# Altium footprint library GeneralCases.PcbLib: 45 footprints (part 3 of 3)
Each footprint in its own frame and in the unit in brackets; x right, y up, seen from the top. Pads: shape width x height; smd on the part's side, far side on the other; paste and mask are expansions set on the pad; w line width, h text height; cw(c..) or ccw(c..) is an arc to the next point about the centre after c.
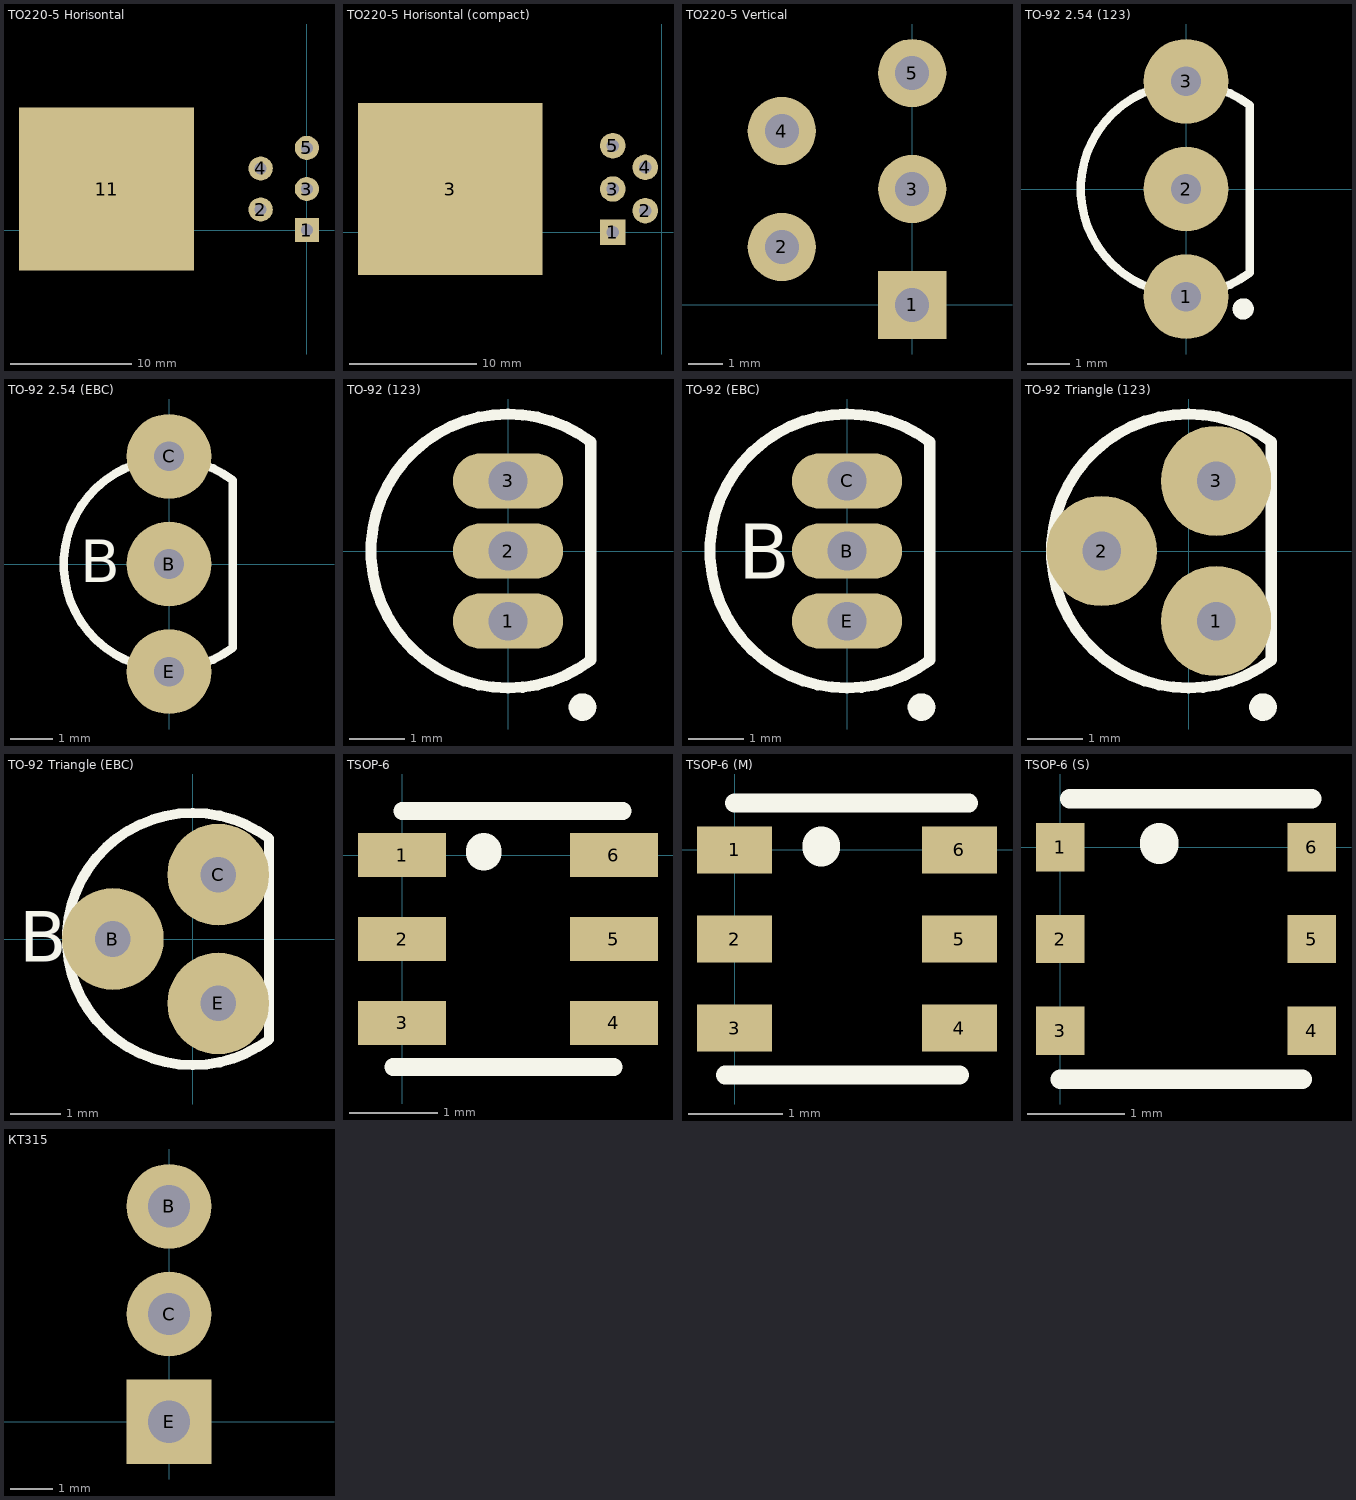
[diagram p2: the footprints below, top view; thin cyan lines are the x and y axes]

## TO220-5 Horisontal [mm]
height 5
pads (6):
  rect 2x2 hole 1: 1(0,0)
  round 2 hole 1: 2(-3.825,1.7) 3(0,3.4) 4(-3.825,5.1) 5(0,6.8)
  rect 14.5x13.5 smd: 11(-16.575,3.4)
3D body "TO220-5 horisontal.step": height 5, standoff -5.9, extent -21.9,-1.8 0.325,8.6

## TO220-5 Horisontal (compact) [mm]
height 5
pads (6):
  rect 2x2 hole 1: 1(-3.825,0)
  round 2 hole 1: 2(-1.275,1.7) 3(-3.825,3.4) 4(-1.275,5.1) 5(-3.825,6.8)
  rect 14.5x13.5 smd: 3(-16.575,3.4)

## TO220-5 Vertical [mm]
height 22
pads (5):
  rect 2x2 hole 1: 1(0,0)
  round 2 hole 1: 2(-3.825,1.7) 3(0,3.4) 4(-3.825,5.1) 5(0,6.8)
3D body "TO220-5 vertical.STEP": height 22.35, standoff -1.64, extent -8.24,-1.68 0,8.48

## TO-92 2.54 (123) [mm] "TO, Flat Index; 3 In-Line, Axial Leads; Body Dia. 4.5mm; Leads 0.51 x 0.48 mm (max)"
height 6.86
pads (3):
  round 2 hole 0.7: 1(0,-2.54) 2(0,0) 3(0,2.54)
Top Overlay:
  circle w0.25: c1.35,-2.83 r0.125
  lines w0.2: 1.5,-1.98 cw(c0,0) 1.5,1.98 1.5,-1.98
3D body "TO-92 (2.54mm).step": height 5.7, standoff -2, extent -2.371,-2.79 1.6,2.79

## TO-92 2.54 (EBC) [mm] "TO, Flat Index; 3 In-Line, Axial Leads; Body Dia. 4.5mm; Leads 0.51 x 0.48 mm (max)"
height 6.86
pads (3):
  round 2 hole 0.7: B(0,0) C(0,2.54) E(0,-2.54)
Top Overlay:
  lines w0.2: 1.5,-1.98 cw(c0,0) 1.5,1.98 1.5,-1.98
  text "B" at -2.1,-0.425 h1
3D body "TO-92 (2.54mm).step": height 5.7, standoff -2, extent -2.371,-2.79 1.6,2.79

## TO-92 (123) [mm] "TO, Flat Index; 3 In-Line, Axial Leads; Body Dia. 4.5mm; Leads 0.51 x 0.48 mm (max)"
height 6.86
pads (3):
  oval 2x1 hole 0.7: 1(0,-1.27) 2(0,0) 3(0,1.27)
Top Overlay:
  circle w0.25: c1.35,-2.83 r0.125
  lines w0.2: 1.5,-1.98 cw(c0,0) 1.5,1.98 1.5,-1.98
Mechanical 13:
  lines w0.1: 1.5,-1.98 cw(c0,0) 1.5,1.98
3D body "TO-92A.step": height 8, standoff -3, extent -2.4,-2.4 1.53,2.4

## TO-92 (EBC) [mm] "TO, Flat Index; 3 In-Line, Axial Leads; Body Dia. 4.5mm; Leads 0.51 x 0.48 mm (max)"
height 6.86
pads (3):
  oval 2x1 hole 0.7: B(0,0) C(0,1.27) E(0,-1.27)
Top Overlay:
  circle w0.25: c1.35,-2.83 r0.125
  lines w0.2: 1.5,-1.98 cw(c0,0) 1.5,1.98 1.5,-1.98
  text "B" at -1.975,-0.5 h1
3D body "TO-92A.step": height 8, standoff -3, extent -2.4,-2.4 1.53,2.4

## TO-92 Triangle (123) [mm] "TO, Flat Index; 3 In-Line, Axial Leads; Body Dia. 4.5mm; Leads 0.51 x 0.48 mm (max)"
height 6.86
pads (3):
  round 2 hole 0.7: 1(0.5,-1.27) 2(-1.575,0) 3(0.5,1.27)
Top Overlay:
  circle w0.25: c1.35,-2.83 r0.125
  lines w0.2: 1.5,-1.98 cw(c0,0) 1.5,1.98 1.5,-1.98
3D body "TO-92 triangle2.STEP": height 8.33, standoff -4, extent -2.25,-2.71 1.91,2.61

## TO-92 Triangle (EBC) [mm] "TO, Flat Index; 3 In-Line, Axial Leads; Body Dia. 4.5mm; Leads 0.51 x 0.48 mm (max)"
height 6.86
pads (3):
  round 2 hole 0.7: B(-1.575,0) C(0.5,1.27) E(0.5,-1.27)
Top Overlay:
  lines w0.2: 1.5,-1.98 cw(c0,0) 1.5,1.98 1.5,-1.98
  text "B" at -3.425,-0.45 h1
3D body "TO-92 triangle2.STEP": height 8.33, standoff -4, extent -2.25,-2.71 1.91,2.61

## TSOP-6 [mm]
pads (6):
  rect 1x0.5 smd: 1(0,0) 2(0,-0.95) 3(0,-1.9) 4(2.4,-1.9) 5(2.4,-0.95) 6(2.4,0)
Top Overlay:
  lines w0.2: -0.1,-2.4 2.4,-2.4 ; 0,0.5 2.5,0.5
  lines w0.4: 0.925,0.025 0.925,0.05
3D body "TSOP-6.step": height 1, standoff 0, extent -0.15,-2.45 2.55,0.55

## TSOP-6 (M) [mm]
pads (6):
  rect 0.8x0.5 smd: 1(0,0) 2(0,-0.95) 3(0,-1.9) 4(2.4,-1.9) 5(2.4,-0.95) 6(2.4,0)
Top Overlay:
  lines w0.2: -0.1,-2.4 2.4,-2.4 ; 0,0.5 2.5,0.5
  lines w0.4: 0.925,0.025 0.925,0.05
3D body "TSOP-6.step": height 1, standoff 0, extent -0.15,-2.45 2.55,0.55

## TSOP-6 (S) [mm]
pads (6):
  rect 0.5x0.5 smd: 1(0,0) 2(0,-0.95) 3(0,-1.9) 4(2.6,-1.9) 5(2.6,-0.95) 6(2.6,0)
Top Overlay:
  lines w0.2: 0,-2.4 2.5,-2.4 ; 0.1,0.5 2.6,0.5
  lines w0.4: 1.025,0.025 1.025,0.05
3D body "TSOP-6.step": height 1, standoff 0, extent -0.05,-2.45 2.65,0.55

## КТ315 [mm]
height 6
pads (3):
  round 2 hole 1: B(0,5.08) C(0,2.54)
  rect 2x2 hole 1: E(0,0)
3D body "KT315.step": height 5.5, standoff -4.5, extent -1.5,-1.06 1.5,6.14